# Altium integrated library WS-TASV SMD Tact Switch 6X6 mm.IntLib: 27 symbols
Pins are listed as number, name and electrical type; pins without a type are passive.

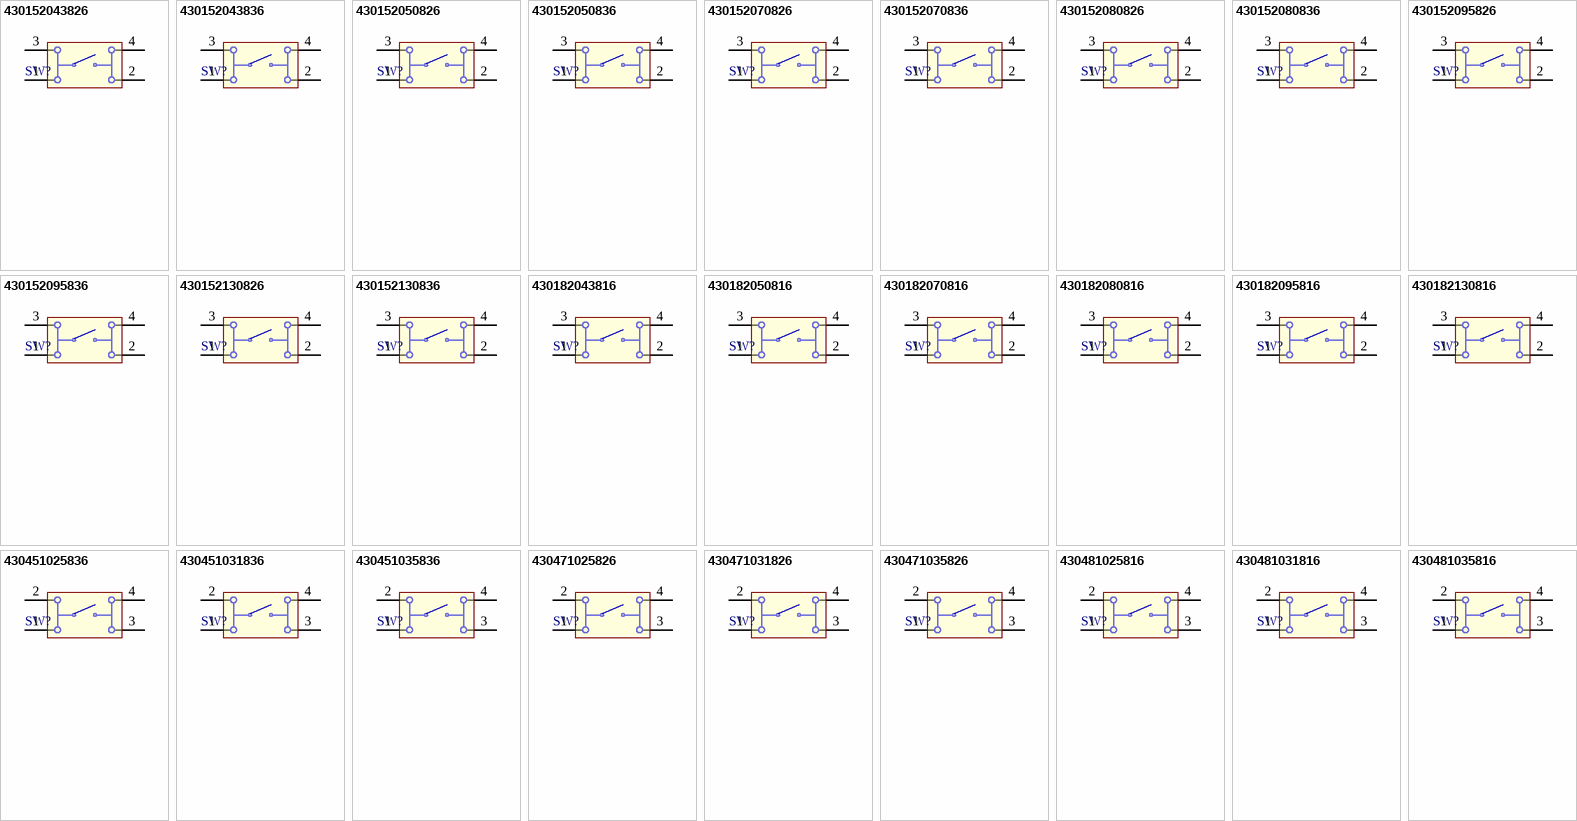
[diagram p0: symbols 430152043826 to 430481035816]

## 430152043826
designator SW?
WS-TASV SMD Tact Switch 6X6 mm; PartNumber: 430152043826; NoPins: 04; PackageReference: 430152043826; ComponentLink1Description: Manufacturer URL; ComponentLink1URL: http://www.we-online.com; ComponentLink2Description: Datasheet; ComponentLink2URL: http://katalog.we-online.de/em/datasheet/4301x2.pdf
footprint 430152043826 (6*6mm vertical type, SMD, height 4.3mm, white actuator, 260gf, T&R)
pins: 1, 2, 3, 4

## 430152043836
designator SW?
WS-TASV SMD Tact Switch 6X6 mm; PartNumber: 430152043836; NoPins: 04; PackageReference: 430152043836; ComponentLink1Description: Manufacturer URL; ComponentLink1URL: http://www.we-online.com; ComponentLink2Description: Datasheet; ComponentLink2URL: http://katalog.we-online.de/em/datasheet/4301x2.pdf
footprint 430152043836 (6*6mm vertical type, SMD, height 4.3mm, salmon actuator, 360gf, T&R)
pins: 1, 2, 3, 4

## 430152050826
designator SW?
WS-TASV SMD Tact Switch 6X6 mm; PartNumber: 430152050826; NoPins: 04; PackageReference: 430152050826; ComponentLink1Description: Manufacturer URL; ComponentLink1URL: http://www.we-online.com; ComponentLink2Description: Datasheet; ComponentLink2URL: http://katalog.we-online.de/em/datasheet/4301x2.pdf
footprint 430152050826 (6*6mm vertical type, SMD, height 5.0mm, white actuator, 260gf, T&R)
pins: 1, 2, 3, 4

## 430152050836
designator SW?
WS-TASV SMD Tact Switch 6X6 mm; PartNumber: 430152050836; NoPins: 04; PackageReference: 430152050836; ComponentLink1Description: Manufacturer URL; ComponentLink1URL: http://www.we-online.com; ComponentLink2Description: Datasheet; ComponentLink2URL: http://katalog.we-online.de/em/datasheet/4301x2.pdf
footprint 430152050836 (6*6mm vertical type, SMD, height 5.0mm, salmon actuator, 360gf, T&R)
pins: 1, 2, 3, 4

## 430152070826
designator SW?
WS-TASV SMD Tact Switch 6X6 mm; PartNumber: 430152070826; NoPins: 04; PackageReference: 430152070826; ComponentLink1Description: Manufacturer URL; ComponentLink1URL: http://www.we-online.com; ComponentLink2Description: Datasheet; ComponentLink2URL: http://katalog.we-online.de/em/datasheet/4301x2.pdf
footprint 430152070826 (6*6mm vertical type, SMD, height 7.0mm, white actuator, 260gf, T&R)
pins: 1, 2, 3, 4

## 430152070836
designator SW?
WS-TASV SMD Tact Switch 6X6 mm; PartNumber: 430152070836; NoPins: 04; PackageReference: 430152070836; ComponentLink1Description: Manufacturer URL; ComponentLink1URL: http://www.we-online.com; ComponentLink2Description: Datasheet; ComponentLink2URL: http://katalog.we-online.de/em/datasheet/4301x2.pdf
footprint 430152070836 (6*6mm vertical type, SMD, height 7.0mm, salmon actuator, 360gf, T&R)
pins: 1, 2, 3, 4

## 430152080826
designator SW?
WS-TASV SMD Tact Switch 6X6 mm; PartNumber: 430152080826; NoPins: 04; PackageReference: 430152080826; ComponentLink1Description: Manufacturer URL; ComponentLink1URL: http://www.we-online.com; ComponentLink2Description: Datasheet; ComponentLink2URL: http://katalog.we-online.de/em/datasheet/4301x2.pdf
footprint 430152080826 (6*6mm vertical type, SMD, height 8.0mm, white actuator, 260gf, T&R)
pins: 1, 2, 3, 4

## 430152080836
designator SW?
WS-TASV SMD Tact Switch 6X6 mm; PartNumber: 430152080836; NoPins: 04; PackageReference: 430152080836; ComponentLink1Description: Manufacturer URL; ComponentLink1URL: http://www.we-online.com; ComponentLink2Description: Datasheet; ComponentLink2URL: http://katalog.we-online.de/em/datasheet/4301x2.pdf
footprint 430152080836 (6*6mm vertical type, SMD, height 8.0mm, salmon actuator, 360gf, T&R)
pins: 1, 2, 3, 4

## 430152095826
designator SW?
WS-TASV SMD Tact Switch 6X6 mm; PartNumber: 430152095826; NoPins: 04; PackageReference: 430152095826; ComponentLink1Description: Manufacturer URL; ComponentLink1URL: http://www.we-online.com; ComponentLink2Description: Datasheet; ComponentLink2URL: http://katalog.we-online.de/em/datasheet/4301x2.pdf
footprint 430152095826 (6*6mm vertical type, SMD, height 9.5mm, white actuator, 260gf, T&R)
pins: 1, 2, 3, 4

## 430152095836
designator SW?
WS-TASV SMD Tact Switch 6X6 mm; PartNumber: 430152095836; NoPins: 04; PackageReference: 430152095836; ComponentLink1Description: Manufacturer URL; ComponentLink1URL: http://www.we-online.com; ComponentLink2Description: Datasheet; ComponentLink2URL: http://katalog.we-online.de/em/datasheet/4301x2.pdf
footprint 430152095836 (6*6mm vertical type, SMD, height 9.5mm, salmon actuator, 360gf, T&R)
pins: 1, 2, 3, 4

## 430152130826
designator SW?
WS-TASV SMD Tact Switch 6X6 mm; PartNumber: 430152130826; NoPins: 04; PackageReference: 430152130826; ComponentLink1Description: Manufacturer URL; ComponentLink1URL: http://www.we-online.com; ComponentLink2Description: Datasheet; ComponentLink2URL: http://katalog.we-online.de/em/datasheet/4301x2.pdf
footprint 430152130826 (6*6mm vertical type, SMD, height 13.0mm, white actuator, 260gf, T&R)
pins: 1, 2, 3, 4

## 430152130836
designator SW?
WS-TASV SMD Tact Switch 6X6 mm; PartNumber: 430152130836; NoPins: 04; PackageReference: 430152130836; ComponentLink1Description: Manufacturer URL; ComponentLink1URL: http://www.we-online.com; ComponentLink2Description: Datasheet; ComponentLink2URL: http://katalog.we-online.de/em/datasheet/4301x2.pdf
footprint 430152130836 (6*6mm vertical type, SMD, height 13.0mm, salmon actuator, 360gf, T&R)
pins: 1, 2, 3, 4

## 430182043816
designator SW?
WS-TASV SMD Tact Switch 6X6 mm; PartNumber: 430182043816; NoPins: 04; PackageReference: 430182043816; ComponentLink1Description: Manufacturer URL; ComponentLink1URL: http://www.we-online.com; ComponentLink2Description: Datasheet; ComponentLink2URL: http://katalog.we-online.de/em/datasheet/4301x2.pdf
footprint 430182043816 (6*6mm vertical type, SMD, height 4.3mm, black actuator, 160gf, T&R)
pins: 1, 2, 3, 4

## 430182050816
designator SW?
WS-TASV SMD Tact Switch 6X6 mm; PartNumber: 430182050816; NoPins: 04; PackageReference: 430182050816; ComponentLink1Description: Manufacturer URL; ComponentLink1URL: http://www.we-online.com; ComponentLink2Description: Datasheet; ComponentLink2URL: http://katalog.we-online.de/em/datasheet/4301x2.pdf
footprint 430182050816 (6*6mm vertical type, SMD, height 5.0mm, black actuator, 160gf, T&R)
pins: 1, 2, 3, 4

## 430182070816
designator SW?
WS-TASV SMD Tact Switch 6X6 mm; PartNumber: 430182070816; NoPins: 04; PackageReference: 430182070816; ComponentLink1Description: Manufacturer URL; ComponentLink1URL: http://www.we-online.com; ComponentLink2Description: Datasheet; ComponentLink2URL: http://katalog.we-online.de/em/datasheet/4301x2.pdf
footprint 430182070816 (6*6mm vertical type, SMD, height 7.0mm, black actuator, 160gf, T&R)
pins: 1, 2, 3, 4

## 430182080816
designator SW?
WS-TASV SMD Tact Switch 6X6 mm; PartNumber: 430182080816; NoPins: 04; PackageReference: 430182080816; ComponentLink1Description: Manufacturer URL; ComponentLink1URL: http://www.we-online.com; ComponentLink2Description: Datasheet; ComponentLink2URL: http://katalog.we-online.de/em/datasheet/4301x2.pdf
footprint 430182080816 (6*6mm vertical type, SMD, height 8.0mm, black actuator, 160gf, T&R)
pins: 1, 2, 3, 4

## 430182095816
designator SW?
WS-TASV SMD Tact Switch 6X6 mm; PartNumber: 430182095816; NoPins: 04; PackageReference: 430182095816; ComponentLink1Description: Manufacturer URL; ComponentLink1URL: http://www.we-online.com; ComponentLink2Description: Datasheet; ComponentLink2URL: http://katalog.we-online.de/em/datasheet/4301x2.pdf
footprint 430182095816 (6*6mm vertical type, SMD, height 9.5mm, black actuator, 160gf, T&R)
pins: 1, 2, 3, 4

## 430182130816
designator SW?
WS-TASV SMD Tact Switch 6X6 mm; PartNumber: 430182130816; NoPins: 04; PackageReference: 430182130816; ComponentLink1Description: Manufacturer URL; ComponentLink1URL: http://www.we-online.com; ComponentLink2Description: Datasheet; ComponentLink2URL: http://katalog.we-online.de/em/datasheet/4301x2.pdf
footprint 430182130816 (6*6mm vertical type, SMD, height 13.0mm, black actuator, 160gf, T&R)
pins: 1, 2, 3, 4

## 430451025836
designator SW?
WS-TASV SMD Tact Switch 6X6 mm; PartNumber: 430451025836; NoPins: 04; PackageReference: 430451025836; ComponentLink1Description: Manufacturer URL; ComponentLink1URL: http://www.we-online.com; ComponentLink2Description: Datasheet; ComponentLink2URL: http://katalog.we-online.de/em/datasheet/4304x1.pdf
footprint 430451025836 (6*6mm vertical type, SMD, height 2.5mm, salmon actuator, 360gf, T&R)
pins: 1, 2, 3, 4

## 430451031836
designator SW?
WS-TASV SMD Tact Switch 6X6 mm; PartNumber: 430451031836; NoPins: 04; PackageReference: 430451031836; ComponentLink1Description: Manufacturer URL; ComponentLink1URL: http://www.we-online.com; ComponentLink2Description: Datasheet; ComponentLink2URL: http://katalog.we-online.de/em/datasheet/4304x1.pdf
footprint 430451031836 (6*6mm vertical type,SMD, height 3.1mm, salmon actuator, 360gf, T&R)
pins: 1, 2, 3, 4

## 430451035836
designator SW?
WS-TASV SMD Tact Switch 6X6 mm; PartNumber: 430451035836; NoPins: 04; PackageReference: 430451035836; ComponentLink1Description: Manufacturer URL; ComponentLink1URL: http://www.we-online.com; ComponentLink2Description: Datasheet; ComponentLink2URL: http://katalog.we-online.de/em/datasheet/4304x1.pdf
footprint 430451035836 (6*6mm vertical type,SMD,  height 3.5mm, salmon actuator, 360gf, T&R)
pins: 1, 2, 3, 4

## 430471025826
designator SW?
WS-TASV SMD Tact Switch 6X6 mm; PartNumber: 430471025826; NoPins: 04; PackageReference: 430471025826; ComponentLink1Description: Manufacturer URL; ComponentLink1URL: http://www.we-online.com; ComponentLink2Description: Datasheet; ComponentLink2URL: http://katalog.we-online.de/em/datasheet/4304x1.pdf
footprint 430471025826 (6*6mm vertical type,SMD, height 2.5mm, white actuator, 260gf, T&R)
pins: 1, 2, 3, 4

## 430471031826
designator SW?
WS-TASV SMD Tact Switch 6X6 mm; PartNumber: 430471031826; NoPins: 04; PackageReference: 430471031826; ComponentLink1Description: Manufacturer URL; ComponentLink1URL: http://www.we-online.com; ComponentLink2Description: Datasheet; ComponentLink2URL: http://katalog.we-online.de/em/datasheet/4304x1.pdf
footprint 430471031826 (6*6mm vertical type,SMD, height 3.1mm, white actuator, 260gf, T&R)
pins: 1, 2, 3, 4

## 430471035826
designator SW?
WS-TASV SMD Tact Switch 6X6 mm; PartNumber: 430471035826; NoPins: 04; PackageReference: 430471035826; ComponentLink1Description: Manufacturer URL; ComponentLink1URL: http://www.we-online.com; ComponentLink2Description: Datasheet; ComponentLink2URL: http://katalog.we-online.de/em/datasheet/4304x1.pdf
footprint 430471035826 (6*6mm vertical type,SMD,  height 3.5mm, white actuator, 260gf, T&R)
pins: 1, 2, 3, 4

## 430481025816
designator SW?
WS-TASV SMD Tact Switch 6X6 mm; PartNumber: 430481025816; NoPins: 04; PackageReference: 430481025816; ComponentLink1Description: Manufacturer URL; ComponentLink1URL: http://www.we-online.com; ComponentLink2Description: Datasheet; ComponentLink2URL: http://katalog.we-online.de/em/datasheet/4304x1.pdf
footprint 430481025816 (6*6mm vertical type,SMD, height 2.5mm, black actuator, 160gf, T&R)
pins: 1, 2, 3, 4

## 430481031816
designator SW?
WS-TASV SMD Tact Switch 6X6 mm; PartNumber: 430481031816; NoPins: 04; PackageReference: 430481031816; ComponentLink1Description: Manufacturer URL; ComponentLink1URL: http://www.we-online.com; ComponentLink2Description: Datasheet; ComponentLink2URL: http://katalog.we-online.de/em/datasheet/4304x1.pdf
footprint 430481031816 (6*6mm vertical type,SMD, height 3.1mm, black actuator, 160gf, T&R)
pins: 1, 2, 3, 4

## 430481035816
designator SW?
WS-TASV SMD Tact Switch 6X6 mm; PartNumber: 430481035816; NoPins: 04; PackageReference: 430481035816; ComponentLink1Description: Manufacturer URL; ComponentLink1URL: http://www.we-online.com; ComponentLink2Description: Datasheet; ComponentLink2URL: http://katalog.we-online.de/em/datasheet/4304x1.pdf
footprint 430481035816 (6*6mm vertical type,SMD, height 3.5mm, black actuator, 160gf, T&R)
pins: 1, 2, 3, 4